# Altium integrated library MPS20N0040D-S.IntLib: 1 symbol
Pins are listed as number, name and electrical type; pins without a type are passive.

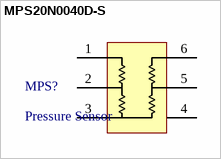
[diagram p0: symbol MPS20N0040D-S]

## MPS20N0040D-S
designator MPS?, comment Pressure Sensor
Designed By @Alixahedi
footprint PCBComponent_1
pins: 1, 2, 3, 4, 5, 6